# EAGLE library part BUTTERFLY (library CEDTv78)
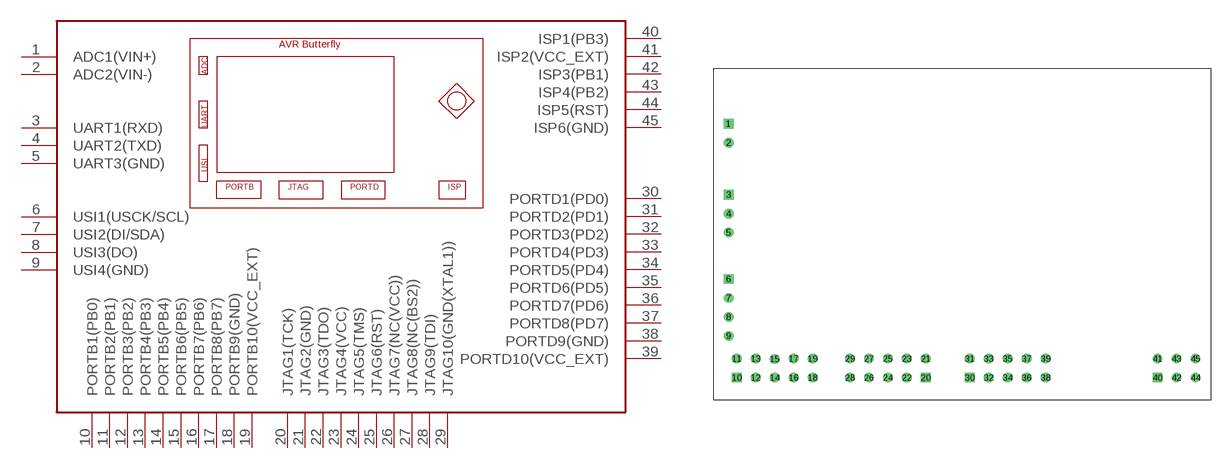
[diagram p3: symbol with the pads of BUTTERFLY; footprint BUTTERFLY]

Designator prefix -

## BUTTERFLY  [BUTTERFLY]
1  ADC1(VIN+)
2  ADC2(VIN-)
3  UART1(RXD)
4  UART2(TXD)
5  UART3(GND)
6  USI1(USCK/SCL)
7  USI2(DI/SDA)
8  USI3(DO)
9  USI4(GND)
10  PORTB1(PB0)
11  PORTB2(PB1)
12  PORTB3(PB2)
13  PORTB4(PB3)
14  PORTB5(PB4)
15  PORTB6(PB5)
16  PORTB7(PB6)
17  PORTB8(PB7)
18  PORTB9(GND)
19  PORTB10(VCC_EXT)
20  JTAG1(TCK)
21  JTAG2(GND)
22  JTAG3(TDO)
23  JTAG4(VCC)
24  JTAG5(TMS)
25  JTAG6(RST)
26  JTAG7(NC(VCC))
27  JTAG8(NC(BS2))
28  JTAG9(TDI)
29  JTAG10(GND(XTAL1))
30  PORTD1(PD0)
31  PORTD2(PD1)
32  PORTD3(PD2)
33  PORTD4(PD3)
34  PORTD5(PD4)
35  PORTD6(PD5)
36  PORTD7(PD6)
37  PORTD8(PD7)
38  PORTD9(GND)
39  PORTD10(VCC_EXT)
40  ISP1(PB3)
41  ISP2(VCC_EXT)
42  ISP3(PB1)
43  ISP4(PB2)
44  ISP5(RST)
45  ISP6(GND)

## Footprint BUTTERFLY (pad centres in mm)
drill 0.8 square: 1 2,37; 3 2,27.5; 6 2,16.2; 10 3.1,3; 20 28.42,3; 30 34.32,3; 40 59.48,3
drill 0.8: 2 2,34.46; 4 2,24.96; 5 2,22.42; 7 2,13.66; 8 2,11.12; 9 2,8.58; 11 3.1,5.54; 12 5.64,3; 13 5.64,5.54; 14 8.18,3; 15 8.18,5.5; 16 10.72,3; 17 10.72,5.54; 18 13.26,3; 19 13.26,5.54; 21 28.42,5.54; 22 25.88,3; 23 25.88,5.54; 24 23.34,3; 25 23.34,5.54; 26 20.8,3; 27 20.8,5.54; 28 18.26,3; 29 18.26,5.54; 31 34.32,5.54; 32 36.86,3; 33 36.86,5.54; 34 39.4,3; 35 39.4,5.54; 36 41.94,3; 37 41.94,5.54; 38 44.48,3; 39 44.48,5.54; 41 59.48,5.54; 42 62.02,3; 43 62.02,5.54; 44 64.56,3; 45 64.56,5.54